# EAGLE library part INA128PA (library INA128)
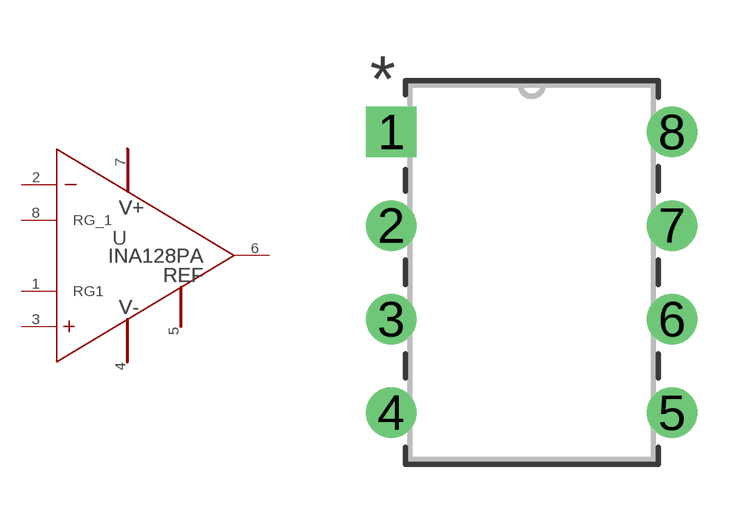
[diagram p0: symbol with the pads of P8; footprint P8]

Designator prefix U

## INA128PA (MANUFACTURER_PART_NUMBER: INA128PA; VENDOR: Texas Instruments)  [P8]
1  RG1  pas
2  IN-  in
3  IN+  in
4  V-1  pwr
5  REF1  in
6  OUT  out
7  V+1  pwr
8  RG_1  pas

## Footprint P8 (pad centres in mm)
drill 0.864 pad 1.372 square: 1 -7.62,7.62
drill 0.864 pad 1.372: 2 -7.62,5.08; 3 -7.62,2.54; 4 -7.62,0; 5 0,0; 6 0,2.54; 7 0,5.08; 8 0,7.62